# Altium footprint library Relay.PcbLib: 3 footprints
Each footprint in its own frame and in the unit in brackets; x right, y up, seen from the top. Pads: shape width x height; smd on the part's side, far side on the other; paste and mask are expansions set on the pad; w line width, h text height; cw(c..) or ccw(c..) is an arc to the next point about the centre after c.
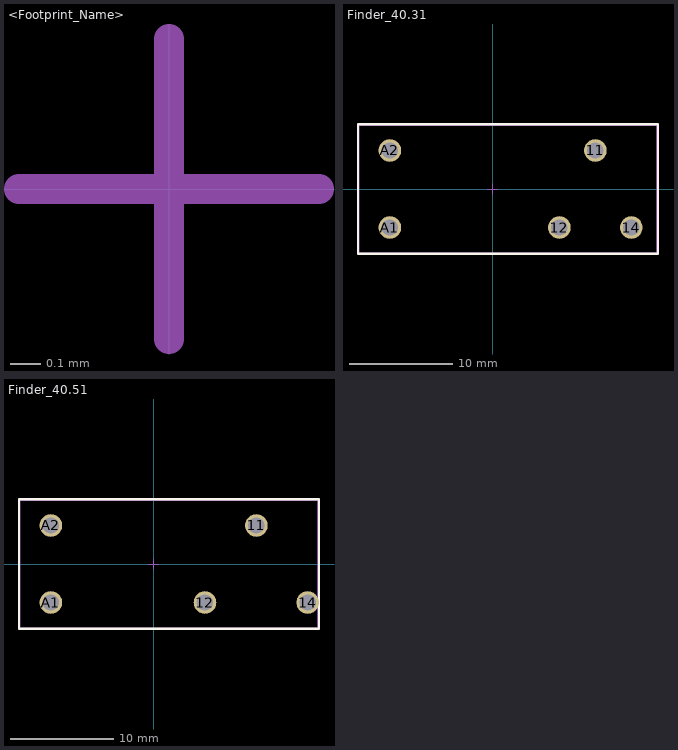
[diagram p0: the footprints below, top view; thin cyan lines are the x and y axes]

## <Footprint_Name> [mm] "<Package_Name>, <Number_of_pins>, <Pitch_in_mm>"
height 2.5
ReperDotTop:
  lines w0.1: -0.5,0 0.5,0 ; 0,-0.5 0,0.5
AssemblyOutlineTop:
  text "'.Designator'" at 0,0 h2.5

## Finder_40.31 [mm] "Relay series 40.31"
height 2.5
pads (5):
  round 2.2 hole 1.6: 11(10,3.75) 12(6.5,-3.75) 14(13.5,-3.75) A1(-10,-3.75) A2(-10,3.75)
Top Overlay:
  lines w0.2: -13.1,-6.3 -13.1,6.3 16.1,6.3 16.1,-6.3 -13.1,-6.3
ReperDotTop:
  lines w0.1: -0.5,0 0.5,0 ; 0,-0.5 0,0.5
AssemblyOutlineTop:
  lines w0.1: -13,-6.2 16,-6.2 16,6.2 -13,6.2 -13,-6.2
  text "'.Designator'" at 0,0 h2.5
3D body "User Library-finder40_31.step": height 25.51, standoff -4.5, extent -13,-6.005 16,6.005

## Finder_40.51 [mm] "Relay series 40.51"
height 2.5
pads (5):
  round 2.2 hole 1.6: 11(10,3.75) 12(5,-3.75) 14(15,-3.75) A1(-10,-3.75) A2(-10,3.75)
Top Overlay:
  lines w0.2: -13.1,-6.3 16.1,-6.3 16.1,6.3 -13.1,6.3 -13.1,-6.3
ReperDotTop:
  lines w0.1: -0.5,0 0.5,0 ; 0,-0.5 0,0.5
AssemblyOutlineTop:
  lines w0.1: -13,-6.2 16,-6.2 16,6.2 -13,6.2 -13,-6.2
  text "'.Designator'" at 0,0 h2.5